# Altium schematic symbol library AON6278.SchLib: 1 symbol
Pins are listed as number, name and electrical type; pins without a type are passive.

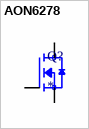
[diagram p0: symbol AON6278]

## AON6278
designator Q?
Trans MOSFET N-CH 80V 85A 8-Pin DFN EP; MF: {'manufacturer': u'Alpha '}; MP: AON6278; Package: None; Price: None; Value: *; Availability: Unavailable
footprint TRANS_AON6278
pins: 1 S, 2 S, 3 S, 4 G, 5 D, 6 D, 7 D, 8 D, 9 D